# EAGLE library part RFM69W (library RemoteHome)
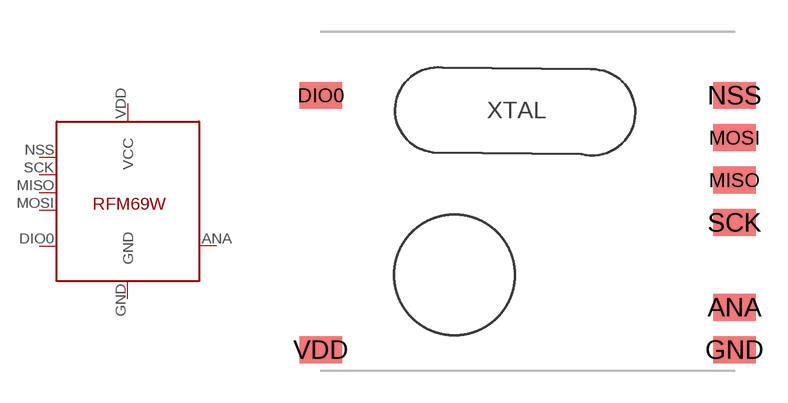
[diagram p4: symbol with the pads of RFM69W; footprint RFM69W]

Designator prefix -

## RFM69W  [RFM69W]
ANA  ANT  pas
DIO0  DIO0  oc
GND  GND  pwr
MISO  MISO  in
MOSI  MOSI  out
NSS  SEL  in
SCK  SCK  in
VDD  VCC  pwr

## Footprint RFM69W (pad centres in mm)
smd 2 x 1.27: ANA 9.27,-5; DIO0 -10.23,5; GND 9.27,-7; MISO 9.27,1; MOSI 9.27,3; NSS 9.27,5; SCK 9.27,-1; VDD -10.23,-7